# Altium footprint library CAP_TANTAL.PcbLib: 1 footprints
Each footprint in its own frame and in the unit in brackets; x right, y up, seen from the top. Pads: shape width x height; smd on the part's side, far side on the other; paste and mask are expansions set on the pad; w line width, h text height; cw(c..) or ccw(c..) is an arc to the next point about the centre after c.
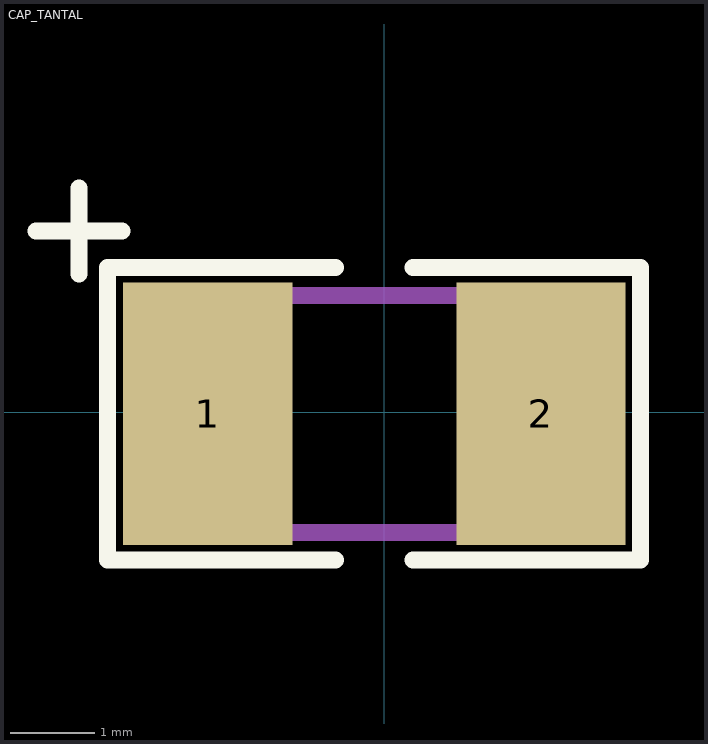
[diagram p0: the footprint, top view; thin cyan lines are the x and y axes]

## CAP_TANTAL [mm]
pads (2):
  rect 2x3.1 smd: 1(-2.085,-0.017) 2(1.852,-0.017)
Top Overlay:
  lines w0.2: -4.117,2.142 -3.101,2.142 ; -3.609,1.634 -3.609,2.65 ; -0.578,-1.746 -3.27,-1.746 -3.27,1.708 -0.578,1.708 ; 0.337,-1.746 3.029,-1.746 3.029,1.708 0.337,1.708
Bottom Assembly:
  lines w0.2: -1.822,-1.422 -1.822,1.378 1.678,1.378 ; -1.766,-1.422 1.734,-1.422 1.734,1.378
3D body "Tant Cap SMD size B _ 3528-21.stp": height 1.94, standoff 0.01, extent -1.698,-1.368 1.762,1.432